# EAGLE library part ACS722LLCTR-10AU (library NR_IC)
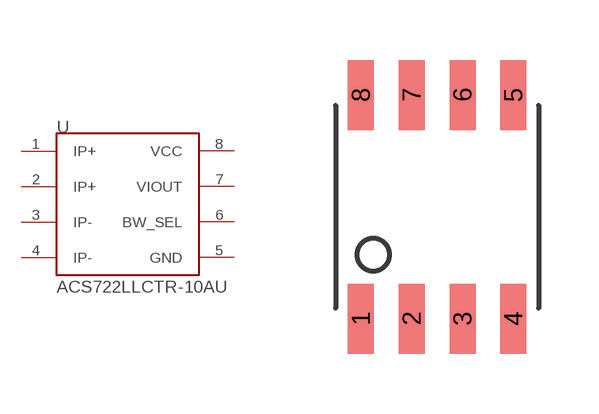
[diagram p0: symbol with the pads of SOIC-8; footprint SOIC-8]

Designator prefix U

## ACS722LLCTR-10AU  [SOIC-8]
1  IP+
2  IP+
3  IP-
4  IP-
5  GND  pwr
6  BW_SEL
7  VIOUT
8  VCC  pwr

## Footprint SOIC-8 (pad centres in mm)
smd 0.65 x 1.75: 1 -1.905,-2.8; 2 -0.635,-2.8; 3 0.635,-2.8; 4 1.905,-2.8; 5 1.905,2.8; 6 0.635,2.8; 7 -0.635,2.8; 8 -1.905,2.8